# Altium footprint library CON 046045060x.PcbLib: 1 footprints
Each footprint in its own frame and in the unit in brackets; x right, y up, seen from the top. Pads: shape width x height; smd on the part's side, far side on the other; paste and mask are expansions set on the pad; w line width, h text height; cw(c..) or ccw(c..) is an arc to the next point about the centre after c.
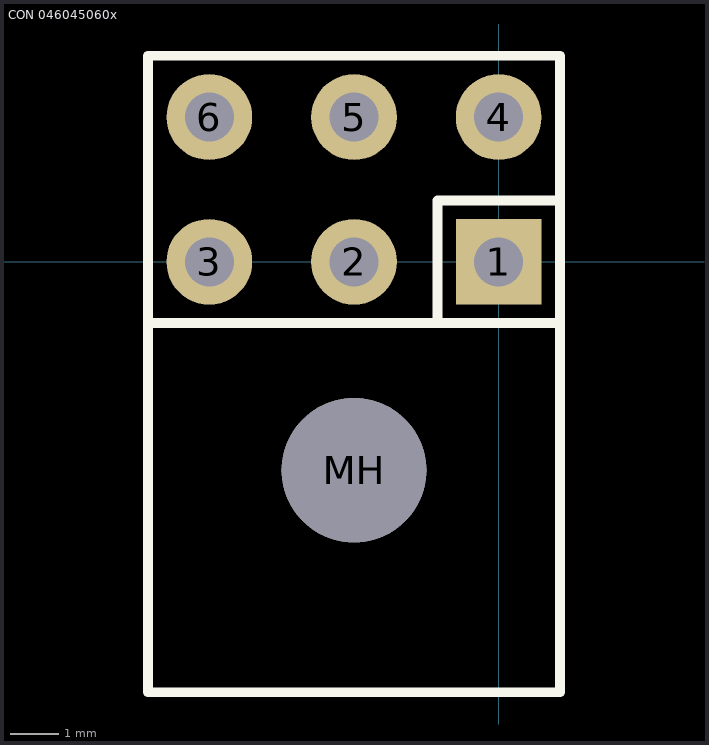
[diagram p0: the footprint, top view; thin cyan lines are the x and y axes]

## CON 046045060x [mil] "Molex Micro-Fit 3.0, 6-pos header"
pads (7):
  rect 70x70 hole 40: 1(0,0)
  round 70 hole 40: 2(-118,0) 3(-236,0) 4(0,118) 5(-118,118) 6(-236,118)
  round 118 hole 118 unplated: MH(-118,-170)
TopOverlay:
  lines w8: -286,-50 50,-50 ; -50,-50 -50,50 50,50 ; -286,-351 50,-351 50,168 -286,168 -286,-351
Mechanical4:
  text ".341" at 0,0 h1
3D body: height 345.88, standoff -124.59, extent -376.86,-350.88 140.86,131.01